# Altium footprint library hedgehog.PcbLib: 2 footprints
Each footprint in its own frame and in the unit in brackets; x right, y up, seen from the top. Pads: shape width x height; smd on the part's side, far side on the other; paste and mask are expansions set on the pad; w line width, h text height; cw(c..) or ccw(c..) is an arc to the next point about the centre after c.
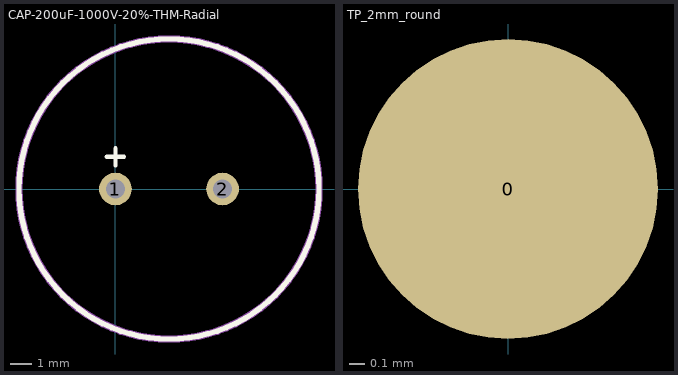
[diagram p0: the footprints below, top view; thin cyan lines are the x and y axes]

## CAP-200uF-1000V-20%-THM-Radial [mil] "THM-Radial- Pitch5mm"
height 984.25
pads (2):
  round 60 hole 35.43: 1(0,0) 2(196.85,0)
Top Overlay:
  circle w10: c98.43,0 r275.59
  lines w7.87: -15.75,59.06 15.75,59.06 ; 0,43.31 0,74.8
Mechanical 15:
  circle w13.78: c98.43,0 r275.59
  text "'Designator'" at -5,95 h19.68
3D body "User Library-CapAluRadial_D125H250.STEP": height 1062.99, standoff -118.11, extent -155.9,-255.89 355.91,255.9

## TP_2mm_round [mm]
pads (1):
  round 2 smd: 0(0,0)